# Altium schematic symbol library SM04B-SRSS-TB.SchLib: 1 symbol
Pins are listed as number, name and electrical type; pins without a type are passive.

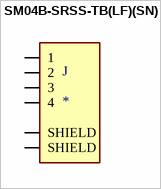
[diagram p0: symbol SM04B-SRSS-TB(LF)(SN)]

## SM04B-SRSS-TB(LF)(SN)
designator J
Connector Header Surface Mount, Right Angle 4 position 0.039 _1.00mm_; MF: JST Sales; MP: SM04B-SRSS-TB_LF__SN_; Price: None; SnapEDA_Link: https://www.snapeda.com/parts/SM04B-SRSS-TB%28LF%29%28SN%29/JST%20Sales%20America%20Inc./view-part/557466/?ref=snap; Value: *; Availability: Unavailable; Package: None
footprint JST_SM04B-SRSS-TB(LF)(SN)
pins: 1, 2, 3, 4, S1 SHIELD, S2 SHIELD